# EAGLE library part S-35770E01I-K8T2U (library 2026-01-03_09-47-04_Library)
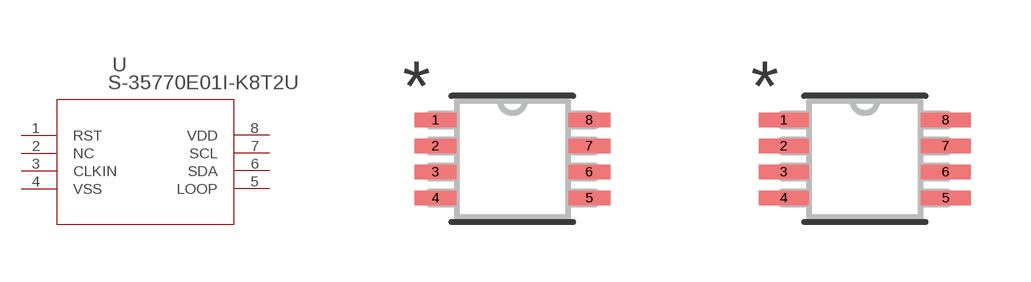
[diagram p0: symbol with the pads of TMSOP08_2P9X2P8_ABL; footprints TMSOP08_2P9X2P8_ABL, TMSOP08_2P9X2P8_ABL-M]

Designator prefix U

## S-35770E01I-K8T2UTMSOP08_2P9X2P8_ABL (Copyright: Copyright (C) 2026 Ultra Librarian. All rights reserved.; Manufacturer_Name: ABLIC; Manufacturer_Part_Number: S-35770E01I-K8T2U)  [TMSOP08_2P9X2P8_ABL]
1  RST  pas
2  NC  nc
3  CLKIN  pas
4  VSS  pas
5  LOOP  pas
6  SDA  pas
7  SCL  pas
8  VDD  pwr

## S-35770E01I-K8T2UTMSOP08_2P9X2P8_ABL-M (Copyright: Copyright (C) 2026 Ultra Librarian. All rights reserved.; Manufacturer_Name: ABLIC; Manufacturer_Part_Number: S-35770E01I-K8T2U)  [TMSOP08_2P9X2P8_ABL-M]
Pads as for TMSOP08_2P9X2P8_ABL

## S-35770E01I-K8T2UTMSOP08_2P9X2P8_ABL-L (Copyright: Copyright (C) 2026 Ultra Librarian. All rights reserved.; Manufacturer_Name: ABLIC; Manufacturer_Part_Number: S-35770E01I-K8T2U)  [TMSOP08_2P9X2P8_ABL-L]
Pads as for TMSOP08_2P9X2P8_ABL

## Footprint TMSOP08_2P9X2P8_ABL (pad centres in mm)
smd 1.054 x 0.356: 1 -1.924,0.975; 2 -1.924,0.325; 3 -1.924,-0.325; 4 -1.924,-0.975; 5 1.924,-0.975; 6 1.924,-0.325; 7 1.924,0.325; 8 1.924,0.975

## Footprint TMSOP08_2P9X2P8_ABL-M (pad centres in mm)
smd 1.257 x 0.356: 1 -2.026,0.975; 2 -2.026,0.325; 3 -2.026,-0.325; 4 -2.026,-0.975; 5 2.026,-0.975; 6 2.026,-0.325; 7 2.026,0.325; 8 2.026,0.975

## Footprint TMSOP08_2P9X2P8_ABL-L (pad centres in mm)
smd 0.851 x 0.305: 1 -1.822,0.975; 2 -1.822,0.325; 3 -1.822,-0.325; 4 -1.822,-0.975; 5 1.822,-0.975; 6 1.822,-0.325; 7 1.822,0.325; 8 1.822,0.975